# EAGLE library part MCP3201 (library FHD-Actives)
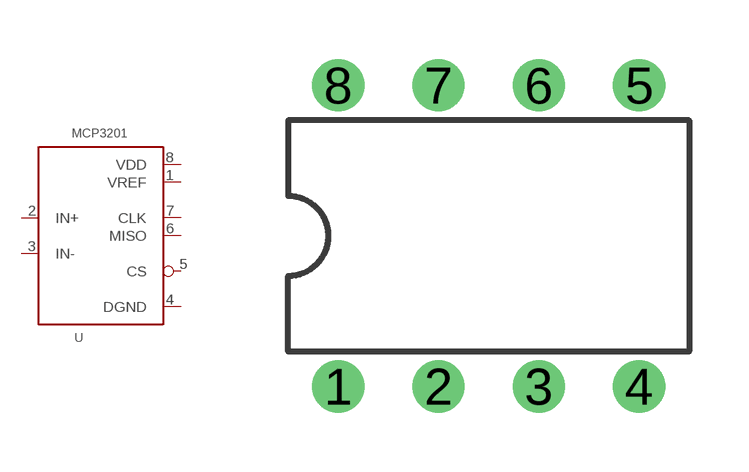
[diagram p7: symbol with the pads of DIL08; footprint DIL08]

Designator prefix -

## MCP3201  [DIL08]
1  VREF
2  IN+  in
3  IN-  in
4  DGND  pwr
5  CS
6  MISO
7  CLK
8  VDD  pwr

## Footprint DIL08 (pad centres in mm)
Dual In Line Package
drill 0.813 pad 1.27: 1 -3.81,-3.81; 2 -1.27,-3.81; 3 1.27,-3.81; 4 3.81,-3.81; 5 3.81,3.81; 6 1.27,3.81; 7 -1.27,3.81; 8 -3.81,3.81